# Altium schematic symbol library linear_voltage_regulators.SchLib: 39 symbols
Pins are listed as number, name and electrical type; pins without a type are passive.

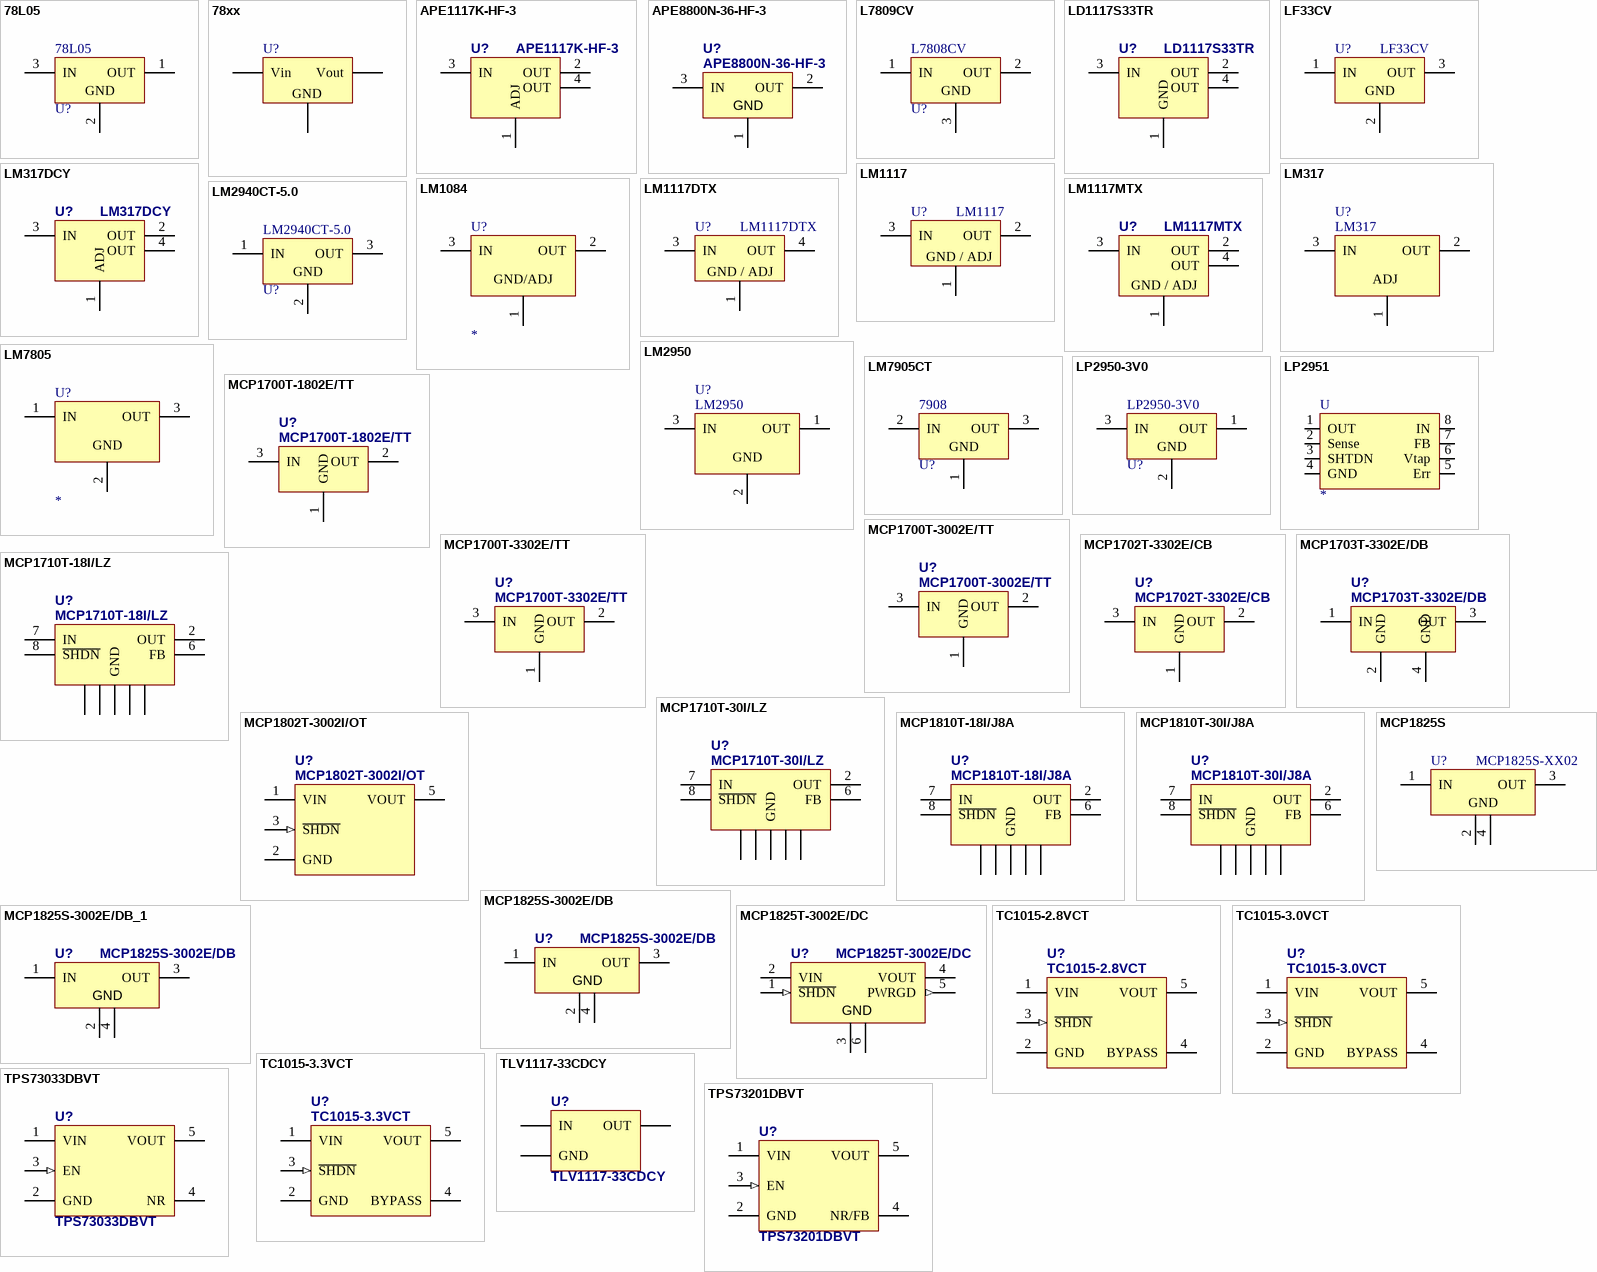
[diagram p0: symbols 78L05 to TPS73201DBVT]

## 78L05
designator U?
Positive Voltage Regulator; Note: Tab is connected to pin 3 (GND).; Published: 24-Aug-2001; LatestRevisionDate: 17-Jul-2002; LatestRevisionNote: Re-released for DXP Platform.; DatasheetVersion: Dec-1998; PackageVersion: Jun-1998; PackageReference: TO220ABN; Publisher: Altium Limited; PackageDescription: TO, Thru-Hole, Vertical, Heatsink Mounted; 3 In-Line Leads; Pitch 2.54 mm; Pin sequence 1, 3, 2; ComponentLink1Description: Manufacturer Link; ComponentLink1URL: http://www.st.com/
footprint TO92 (Footprint not found)
pins: 1 OUT (power), 2 GND (power), 3 IN (power)

## 78xx
designator U?
Positive Voltage Regulator; Published: 20-Feb-2006
pins: 1 Vin (power), 2 GND (power), 3 Vout (power)

## APE1117K-HF-3
designator U?
800mA Low-Dropout Adjustable, 1A Linear Regulator, SOT223 Package; Published: 24-Aug-2001; LatestRevisionDate: 06-Jun-2005; LatestRevisionNote: PCB Pin sequence re-ordered.; DatasheetVersion: Feb-2004; PackageVersion: Jul-2004; PackageReference: TO-220A; Publisher: Altium Limited; PackageDescription: TO, Thru-Hole, Vertical, Heatsink Mounted; 3 In-Line Leads; Pitch 2.54 mm; ComponentLink1Description: Manufacturer Link; ComponentLink1URL: http://www.st.com/; ComponentLink2Description: Datasheet; ComponentLink2URL: http://www.st.com/stonline/books/pdf/docs/2574.pdf; Supplier 1: TME; Supplier Part Number 1: APE1117K-HF-3
footprint SOT-223
pins: 1 ADJ (power), 2 OUT (power), 3 IN (power), 4 OUT (power)

## APE8800N-36-HF-3
designator U?
300mA Low Drop-out Linear Regulator; Published: 24-Aug-2001; LatestRevisionDate: 06-Jun-2005; LatestRevisionNote: PCB Pin sequence re-ordered.; DatasheetVersion: Feb-2004; PackageVersion: Jul-2004; PackageReference: TO-220A; Publisher: Altium Limited; PackageDescription: TO, Thru-Hole, Vertical, Heatsink Mounted; 3 In-Line Leads; Pitch 2.54 mm; ComponentLink1Description: Manufacturer Link; ComponentLink1URL: http://www.st.com/; ComponentLink2Description: Datasheet; ComponentLink2URL: http://www.st.com/stonline/books/pdf/docs/2574.pdf; Supplier 1: TME; Supplier Part Number 1: APE8800N-36-HF-3
footprint SOT-23
footprint SOT-23W
pins: 1 GND (power), 2 OUT (power), 3 IN (power)

## L7809CV
designator U?, comment L7808CV
Positive Voltage Regulator; Note: Tab is connected to pin 3 (GND).; Published: 24-Aug-2001; LatestRevisionDate: 17-Jul-2002; LatestRevisionNote: Re-released for DXP Platform.; DatasheetVersion: Dec-1998; PackageVersion: Jun-1998; PackageReference: TO220ABN; Publisher: Altium Limited; PackageDescription: TO, Thru-Hole, Vertical, Heatsink Mounted; 3 In-Line Leads; Pitch 2.54 mm; Pin sequence 1, 3, 2; ComponentLink1Description: Manufacturer Link; ComponentLink1URL: http://www.st.com/
footprint TO220ABN -wide
pins: 1 IN (power), 2 OUT (power), 3 GND (power)

## LD1117S33TR
designator U?
800mA Low-Dropout 3,3V Linear Regulator, SOT223 Package; Published: 24-Aug-2001; LatestRevisionDate: 06-Jun-2005; LatestRevisionNote: PCB Pin sequence re-ordered.; DatasheetVersion: Feb-2004; PackageVersion: Jul-2004; PackageReference: TO-220A; Publisher: Altium Limited; PackageDescription: TO, Thru-Hole, Vertical, Heatsink Mounted; 3 In-Line Leads; Pitch 2.54 mm; ComponentLink1Description: Manufacturer Link; ComponentLink1URL: http://www.st.com/; ComponentLink2Description: Datasheet; ComponentLink2URL: http://www.st.com/stonline/books/pdf/docs/2574.pdf; Supplier 1: TME; Supplier 2: Farnell; Supplier 3: Farnell; Supplier Part Number 1: LD1117S33TR; Supplier Part Number 2: 1202826; Supplier Part Number 3: 2393623
footprint SOT-223
pins: 1 GND (power), 2 OUT (power), 3 IN (power), 4 OUT (power)

## LF33CV
designator U?
500mA, Very Low Drop (0.45V) Voltage Regulator; Published: 24-Aug-2001; LatestRevisionDate: 06-Jun-2005; LatestRevisionNote: PCB Pin sequence re-ordered.; DatasheetVersion: Feb-2004; PackageVersion: Jul-2004; PackageReference: TO-220A; Publisher: Altium Limited; PackageDescription: TO, Thru-Hole, Vertical, Heatsink Mounted; 3 In-Line Leads; Pitch 2.54 mm; ComponentLink1Description: Manufacturer Link; ComponentLink1URL: http://www.st.com/; ComponentLink2Description: Datasheet; ComponentLink2URL: http://www.st.com/stonline/books/pdf/docs/2574.pdf
footprint TO-220A (TO, Thru-Hole, Vertical, Heatsink Mounted; 3 In-Line Leads; Pitch 2.54 mm)
footprint LF33
pins: 1 IN (power), 2 GND (power), 3 OUT (power)

## LM317
designator U?
1.2V TO 37V VOLTAGE REGULATOR, 1.5A
footprint TO220
footprint D2PAK
pins: 1 ADJ, 2 OUT, 3 IN

## LM317DCY
designator U?
800mA Low-Dropout ADJUSTABLE Linear Regulator, SOT223 Package; Published: 24-Aug-2001; LatestRevisionDate: 06-Jun-2005; LatestRevisionNote: PCB Pin sequence re-ordered.; DatasheetVersion: Feb-2004; PackageVersion: Jul-2004; PackageReference: TO-220A; Publisher: Altium Limited; PackageDescription: TO, Thru-Hole, Vertical, Heatsink Mounted; 3 In-Line Leads; Pitch 2.54 mm; ComponentLink1Description: Manufacturer Link; ComponentLink1URL: http://www.st.com/; ComponentLink2Description: Datasheet; ComponentLink2URL: http://www.st.com/stonline/books/pdf/docs/2574.pdf; Supplier 1: TME; Supplier 2: Farnell; Supplier 3: Farnell; Supplier Part Number 1: LD1117S33TR; Supplier Part Number 2: 1202826; Supplier Part Number 3: 2393623
footprint SOT-223
pins: 1 ADJ (power), 2 OUT (power), 3 IN (power), 4 OUT (power)

## LM1084
designator U?
5A Low Dropout Positive Regulators (3.3V, 5.0V, 12V and Adjustable Versions)
footprint TO220
pins: 1 ADJ, 2 OUT, 3 IN
text: GND/ADJ

## LM1117
designator U?
1,5A, Voltage Regulator ADJ; Published: 24-Aug-2001; LatestRevisionDate: 06-Jun-2005; LatestRevisionNote: PCB Pin sequence re-ordered.; DatasheetVersion: Feb-2004; PackageVersion: Jul-2004; PackageReference: TO-220A; Publisher: Altium Limited; PackageDescription: TO, Thru-Hole, Vertical, Heatsink Mounted; 3 In-Line Leads; Pitch 2.54 mm; ComponentLink1Description: Manufacturer Link; ComponentLink1URL: http://www.st.com/; ComponentLink2Description: Datasheet; ComponentLink2URL: http://www.st.com/stonline/books/pdf/docs/2574.pdf
footprint to-252
pins: 1 ADJ (power), 2 OUT (power), 3 IN (power)
text: GND / ADJ

## LM1117DTX
designator U?
800mA Low-Dropout Linear Regulator, TO-252-2 (DPAK-2) Package; Published: 24-Aug-2001; LatestRevisionDate: 06-Jun-2005; LatestRevisionNote: PCB Pin sequence re-ordered.; DatasheetVersion: Feb-2004; PackageVersion: Jul-2004; PackageReference: TO-220A; Publisher: Altium Limited; PackageDescription: TO, Thru-Hole, Vertical, Heatsink Mounted; 3 In-Line Leads; Pitch 2.54 mm; ComponentLink1Description: Manufacturer Link; ComponentLink1URL: http://www.st.com/; ComponentLink2Description: Datasheet; ComponentLink2URL: http://www.st.com/stonline/books/pdf/docs/2574.pdf
footprint TO-252-2 (DPAK-2)
pins: 1 ADJ (power), 3 IN (power), 4 OUT (power)
text: GND / ADJ

## LM1117MTX
designator U?
800mA Low-Dropout Linear Regulator, SOT223 Package; Published: 24-Aug-2001; LatestRevisionDate: 06-Jun-2005; LatestRevisionNote: PCB Pin sequence re-ordered.; DatasheetVersion: Feb-2004; PackageVersion: Jul-2004; PackageReference: TO-220A; Publisher: Altium Limited; PackageDescription: TO, Thru-Hole, Vertical, Heatsink Mounted; 3 In-Line Leads; Pitch 2.54 mm; ComponentLink1Description: Manufacturer Link; ComponentLink1URL: http://www.st.com/; ComponentLink2Description: Datasheet; ComponentLink2URL: http://www.st.com/stonline/books/pdf/docs/2574.pdf
footprint SOT-223
pins: 1 ADJ (power), 2 OUT (power), 3 IN (power), 4 OUT (power)
text: GND / ADJ

## LM2940CT-5.0
designator U?
1A Low-Dropout Regulator; Note: Tab is connected to GND; Published: 15-Apr-2002; DatasheetVersion: Jun-1999; PackageVersion: 1995; PackageReference: T03B; Publisher: Altium Limited; PackageDescription: TO, Thru-Hole, Vertical, Heatsink Mounted; 3 In-Line Leads; Pitch 2.54 mm; ComponentLink1Description: Manufacturer Link; ComponentLink1URL: http://www.national.com/; ComponentLink2Description: Datasheet; ComponentLink2URL: http://www.national.com/ds.cgi/LM/LM2940.pdf; ComponentLink3Description: URL Link1; ComponentLink3URL: http://www.national.com/pf/LM/LM2940C.html
footprint T03B (TO, Thru-Hole, Vertical, Heatsink Mounted; 3 In-Line Leads; Pitch 2.54 mm)
pins: 1 IN (power), 2 GND (power), 3 OUT (power)

## LM2950
designator U?
0.1A LOW DROPOUT VOLTAGE REGULATOR
footprint TO92
pins: 1 OUT, 2 GND, 3 IN

## LM7805
designator U?
3-Terminal 1A Positive Voltage Regulator
footprint TO220
pins: 1 IN, 2 GND, 3 OUT

## LM7905CT
designator U?, comment 7908
3-Terminal Negative Regulator; Note: Tab is connected to Input; Published: 15-Apr-2002; DatasheetVersion: Jun-1999; PackageVersion: 1995; PackageReference: T03B; Publisher: Altium Limited; PackageDescription: TO, Thru-Hole, Vertical, Heatsink Mounted; 3 In-Line Leads; Pitch 2.54 mm; ComponentLink1Description: Manufacturer Link; ComponentLink1URL: http://www.national.com/; ComponentLink2Description: Datasheet; ComponentLink2URL: http://www.national.com/ds.cgi/LM/LM7905.pdf; ComponentLink3Description: URL Link1; ComponentLink3URL: http://www.national.com/pf/LM/LM7905.html
footprint T03B (TO, Thru-Hole, Vertical, Heatsink Mounted; 3 In-Line Leads; Pitch 2.54 mm)
pins: 1 GND (power), 2 IN (power), 3 OUT (power)

## LP2950-3V0
designator U?
3V0, 100mA Voltage Regulator; Note: Tab is connected to pin 3 (GND).; Published: 24-Aug-2001; LatestRevisionDate: 17-Jul-2002; LatestRevisionNote: Re-released for DXP Platform.; DatasheetVersion: Dec-1998; PackageVersion: Jun-1998; PackageReference: TO220ABN; Publisher: Altium Limited; PackageDescription: TO, Thru-Hole, Vertical, Heatsink Mounted; 3 In-Line Leads; Pitch 2.54 mm; Pin sequence 1, 3, 2; ComponentLink1Description: Manufacturer Link; ComponentLink1URL: http://www.st.com/
footprint TO-92A
footprint TO-92B
footprint TO-92C
footprint TO-92D
pins: 1 OUT (power), 2 GND (power), 3 IN (power)

## LP2951
designator U
Adjustable Micropower Voltage Regulators
footprint SOT-23-8
pins: 1 OUT, 2 Sense, 3 SHTDN, 4 GND, 5 Err, 6 Vtap, 7 FB, 8 IN

## MCP1700T-1802E/TT
designator U?
250mA, Low Voltage, Low Quiescent Current (1.6uA) LDO Voltage Regulator; Published: 24-Aug-2001; LatestRevisionDate: 06-Jun-2005; LatestRevisionNote: PCB Pin sequence re-ordered.; DatasheetVersion: Feb-2004; PackageVersion: Jul-2004; PackageReference: TO-220A; Publisher: Altium Limited; ComponentLink1Description: Manufacturer Link; ComponentLink1URL: http://www.st.com/; ComponentLink2Description: Datasheet; ComponentLink2URL: http://www.st.com/stonline/books/pdf/docs/2574.pdf; Supplier 1: TME; Supplier 2: Farnell; Supplier 3: Farnell; Supplier 4: Farnell; Supplier 5: Farnell; Supplier Part Number 1: MCP1700T-1802E/TT; Supplier Part Number 2: 1296591RL; Supplier Part Number 3: 2414055; Supplier Part Number 4: 1296591; Supplier Part Number 5: 2136988
footprint SOT-23
footprint SOT-23W
pins: 1 GND (power), 2 OUT (power), 3 IN (power)

## MCP1700T-3002E/TT
designator U?
250mA, Low Voltage, Low Quiescent Current (1.6uA) LDO Voltage Regulator; Published: 24-Aug-2001; LatestRevisionDate: 06-Jun-2005; LatestRevisionNote: PCB Pin sequence re-ordered.; DatasheetVersion: Feb-2004; PackageVersion: Jul-2004; PackageReference: TO-220A; Publisher: Altium Limited; PackageDescription: TO, Thru-Hole, Vertical, Heatsink Mounted; 3 In-Line Leads; Pitch 2.54 mm; ComponentLink1Description: Manufacturer Link; ComponentLink1URL: http://www.st.com/; ComponentLink2Description: Datasheet; ComponentLink2URL: http://www.st.com/stonline/books/pdf/docs/2574.pdf; Supplier 1: TME; Supplier 2: Farnell; Supplier 3: Farnell; Supplier 4: Farnell; Supplier 5: Farnell; Supplier Part Number 1: MCP1700T3002ETT; Supplier Part Number 2: 1331482RL; Supplier Part Number 3: 2137807; Supplier Part Number 4: 2414056; Supplier Part Number 5: 1331482
footprint SOT-23
footprint SOT-23W
pins: 1 GND (power), 2 OUT (power), 3 IN (power)

## MCP1700T-3302E/TT
designator U?
250mA, Low Voltage, Low Quiescent Current (1.6uA) LDO Voltage Regulator; Published: 24-Aug-2001; LatestRevisionDate: 06-Jun-2005; LatestRevisionNote: PCB Pin sequence re-ordered.; DatasheetVersion: Feb-2004; PackageVersion: Jul-2004; PackageReference: TO-220A; Publisher: Altium Limited; PackageDescription: TO, Thru-Hole, Vertical, Heatsink Mounted; 3 In-Line Leads; Pitch 2.54 mm; ComponentLink1Description: Manufacturer Link; ComponentLink1URL: http://www.st.com/; ComponentLink2Description: Datasheet; ComponentLink2URL: http://www.st.com/stonline/books/pdf/docs/2574.pdf; Supplier 1: Farnell; Supplier 2: TME; Supplier 3: Farnell; Supplier 4: Farnell; Supplier 5: Farnell; Supplier Part Number 1: 1296592; Supplier Part Number 2: MCP1700T3302ETT; Supplier Part Number 3: 2410188; Supplier Part Number 4: 2133944; Supplier Part Number 5: 1296592RL
footprint SOT-23
footprint SOT-23W
pins: 1 GND (power), 2 OUT (power), 3 IN (power)

## MCP1702T-3302E/CB
designator U?
250mA, Vinmax=13.2V, Low Voltage, Low Quiescent Current (2uA) LDO Voltage Regulator; Published: 24-Aug-2001; LatestRevisionDate: 06-Jun-2005; LatestRevisionNote: PCB Pin sequence re-ordered.; DatasheetVersion: Feb-2004; PackageVersion: Jul-2004; PackageReference: TO-220A; Publisher: Altium Limited; PackageDescription: TO, Thru-Hole, Vertical, Heatsink Mounted; 3 In-Line Leads; Pitch 2.54 mm; ComponentLink1Description: Manufacturer Link; ComponentLink1URL: http://www.st.com/; ComponentLink2Description: Datasheet; ComponentLink2URL: http://www.st.com/stonline/books/pdf/docs/2574.pdf
footprint SOT-23
footprint SOT-23W
pins: 1 GND (power), 2 OUT (power), 3 IN (power)

## MCP1703T-3302E/DB
designator U?
250mA, Vinmax=16V, Low Voltage, Low Quiescent Current (2uA) LDO Voltage Regulator; Published: 24-Aug-2001; LatestRevisionDate: 06-Jun-2005; LatestRevisionNote: PCB Pin sequence re-ordered.; DatasheetVersion: Feb-2004; PackageVersion: Jul-2004; PackageReference: TO-220A; Publisher: Altium Limited; PackageDescription: TO, Thru-Hole, Vertical, Heatsink Mounted; 3 In-Line Leads; Pitch 2.54 mm; ComponentLink1Description: Manufacturer Link; ComponentLink1URL: http://www.st.com/; ComponentLink2Description: Datasheet; ComponentLink2URL: http://www.st.com/stonline/books/pdf/docs/2574.pdf
footprint SOT-223
pins: 1 IN (power), 2 GND (power), 3 OUT (power), 4 GND (power)

## MCP1710T-18I/LZ
designator U?
200mA, Low Voltage, Low Quiescent Current (20nA) LDO Voltage Regulator; Published: 24-Aug-2001; LatestRevisionDate: 06-Jun-2005; LatestRevisionNote: PCB Pin sequence re-ordered.; DatasheetVersion: Feb-2004; PackageVersion: Jul-2004; PackageReference: TO-220A; Publisher: Altium Limited; PackageDescription: TO, Thru-Hole, Vertical, Heatsink Mounted; 3 In-Line Leads; Pitch 2.54 mm; ComponentLink1Description: Manufacturer Link; ComponentLink1URL: http://www.st.com/; ComponentLink2Description: Datasheet; ComponentLink2URL: http://www.st.com/stonline/books/pdf/docs/2574.pdf; Supplier 1: TME; Supplier 2: Farnell; Supplier Part Number 1: MCP1710T-18I/LZ; Supplier Part Number 2: 2458685
footprint VDFN8 (Space Saving, 8-Lead Plastic 2mm x 2mm VDFN-8)
pins: 1 GND (power), 2 OUT (power), 3 GND (power), 4 GND (power), 5 GND (power), 6 FB (power), 7 IN (power), 8 ~{SHDN} (power), 9 GND (power)

## MCP1710T-30I/LZ
designator U?
200mA, Low Voltage, Low Quiescent Current (20nA) LDO Voltage Regulator; Published: 24-Aug-2001; LatestRevisionDate: 06-Jun-2005; LatestRevisionNote: PCB Pin sequence re-ordered.; DatasheetVersion: Feb-2004; PackageVersion: Jul-2004; PackageReference: TO-220A; Publisher: Altium Limited; PackageDescription: TO, Thru-Hole, Vertical, Heatsink Mounted; 3 In-Line Leads; Pitch 2.54 mm; ComponentLink1Description: Manufacturer Link; ComponentLink1URL: http://www.st.com/; ComponentLink2Description: Datasheet; ComponentLink2URL: http://www.st.com/stonline/books/pdf/docs/2574.pdf; Supplier 1: Farnell; Supplier 2: Farnell; Supplier Part Number 1: 2458687; Supplier Part Number 2: 2361982
footprint VDFN8 (Space Saving, 8-Lead Plastic 2mm x 2mm VDFN-8)
pins: 1 GND (power), 2 OUT (power), 3 GND (power), 4 GND (power), 5 GND (power), 6 FB (power), 7 IN (power), 8 ~{SHDN} (power), 9 GND (power)

## MCP1802T-3002I/OT
designator U?
300 mA, High PSRR, Low Quiescent Current LDO; Supplier 1: TME; Supplier 2: Farnell; Supplier 3: Farnell; Supplier Part Number 1: MCP1802T-3002IO; Supplier Part Number 2: 1578373; Supplier Part Number 3: 2136026
footprint SOT-23-5 (, AKA: SOT753 (NXP), TSOP5 (NXP))
pins: 1 VIN (power), 2 GND (power), 3 ~{SHDN} (in), 4 NC hidden, 5 VOUT (power)

## MCP1810T-18I/J8A
designator U?
200mA, Low Voltage, Low Quiescent Current (20nA) LDO Voltage Regulator; Published: 24-Aug-2001; LatestRevisionDate: 06-Jun-2005; LatestRevisionNote: PCB Pin sequence re-ordered.; DatasheetVersion: Feb-2004; PackageVersion: Jul-2004; PackageReference: TO-220A; Publisher: Altium Limited; PackageDescription: TO, Thru-Hole, Vertical, Heatsink Mounted; 3 In-Line Leads; Pitch 2.54 mm; ComponentLink1Description: Manufacturer Link; ComponentLink1URL: http://www.st.com/; ComponentLink2Description: Datasheet; ComponentLink2URL: http://www.st.com/stonline/books/pdf/docs/2574.pdf; Supplier 1: TME; Supplier 2: Farnell; Supplier Part Number 1: MCP1810T-18I/J8A; Supplier Part Number 2: 2706218
footprint VDFN8 (Space Saving, 8-Lead Plastic 2mm x 2mm VDFN-8)
pins: 1 GND (power), 2 OUT (power), 3 GND (power), 4 GND (power), 5 GND (power), 6 FB (power), 7 IN (power), 8 ~{SHDN} (power), 9 GND (power)

## MCP1810T-30I/J8A
designator U?
200mA, Low Voltage, Low Quiescent Current (20nA) LDO Voltage Regulator; Published: 24-Aug-2001; LatestRevisionDate: 06-Jun-2005; LatestRevisionNote: PCB Pin sequence re-ordered.; DatasheetVersion: Feb-2004; PackageVersion: Jul-2004; PackageReference: TO-220A; Publisher: Altium Limited; PackageDescription: TO, Thru-Hole, Vertical, Heatsink Mounted; 3 In-Line Leads; Pitch 2.54 mm; ComponentLink1Description: Manufacturer Link; ComponentLink1URL: http://www.st.com/; ComponentLink2Description: Datasheet; ComponentLink2URL: http://www.st.com/stonline/books/pdf/docs/2574.pdf; Supplier 1: TME; Supplier 2: Farnell; Supplier 3: Farnell; Supplier 4: Farnell; Supplier Part Number 1: MCP1810T-30I/J8A; Supplier Part Number 2: 2678486; Supplier Part Number 3: 2678433RL; Supplier Part Number 4: 2678433
footprint VDFN8 (Space Saving, 8-Lead Plastic 2mm x 2mm VDFN-8)
pins: 1 GND (power), 2 OUT (power), 3 GND (power), 4 GND (power), 5 GND (power), 6 FB (power), 7 IN (power), 8 ~{SHDN} (power), 9 GND (power)

## MCP1825S
designator U?, comment MCP1825S-XX02
500mA, Very Voltage, Low Quiescent Current LDO Voltage Regulator; Published: 24-Aug-2001; LatestRevisionDate: 06-Jun-2005; LatestRevisionNote: PCB Pin sequence re-ordered.; DatasheetVersion: Feb-2004; PackageVersion: Jul-2004; PackageReference: TO-220A; Publisher: Altium Limited; PackageDescription: TO, Thru-Hole, Vertical, Heatsink Mounted; 3 In-Line Leads; Pitch 2.54 mm; ComponentLink1Description: Manufacturer Link; ComponentLink1URL: http://www.st.com/; ComponentLink2Description: Datasheet; ComponentLink2URL: http://www.st.com/stonline/books/pdf/docs/2574.pdf
footprint SOT-223
pins: 1 IN (power), 2 GND (power), 3 OUT (power), 4

## MCP1825S-3002E/DB
designator U?
500mA, Low Voltage, Low Quiescent Current LDO Voltage Regulator; Published: 24-Aug-2001; LatestRevisionDate: 06-Jun-2005; LatestRevisionNote: PCB Pin sequence re-ordered.; DatasheetVersion: Feb-2004; PackageVersion: Jul-2004; PackageReference: TO-220A; Publisher: Altium Limited; PackageDescription: TO, Thru-Hole, Vertical, Heatsink Mounted; 3 In-Line Leads; Pitch 2.54 mm; ComponentLink1Description: Manufacturer Link; ComponentLink1URL: http://www.st.com/; ComponentLink2Description: Datasheet; ComponentLink2URL: http://www.st.com/stonline/books/pdf/docs/2574.pdf
footprint SOT-223
pins: 1 IN (power), 2 GND (power), 3 OUT (power), 4

## MCP1825S-3002E/DB_1
designator U?, comment MCP1825S-3002E/DB
500mA, Low Voltage, Low Quiescent Current LDO Voltage Regulator; Published: 24-Aug-2001; LatestRevisionDate: 06-Jun-2005; LatestRevisionNote: PCB Pin sequence re-ordered.; DatasheetVersion: Feb-2004; PackageVersion: Jul-2004; PackageReference: TO-220A; Publisher: Altium Limited; PackageDescription: TO, Thru-Hole, Vertical, Heatsink Mounted; 3 In-Line Leads; Pitch 2.54 mm; ComponentLink1Description: Manufacturer Link; ComponentLink1URL: http://www.st.com/; ComponentLink2Description: Datasheet; ComponentLink2URL: http://www.st.com/stonline/books/pdf/docs/2574.pdf
footprint SOT-223
pins: 1 IN (power), 2 GND (power), 3 OUT (power), 4

## MCP1825T-3002E/DC
designator U?
500mA, Low Voltage, Low Quiescent Current LDO Voltage Regulator; Published: 24-Aug-2001; LatestRevisionDate: 06-Jun-2005; LatestRevisionNote: PCB Pin sequence re-ordered.; DatasheetVersion: Feb-2004; PackageVersion: Jul-2004; PackageReference: TO-220A; Publisher: Altium Limited; PackageDescription: TO, Thru-Hole, Vertical, Heatsink Mounted; 3 In-Line Leads; Pitch 2.54 mm; ComponentLink1Description: Manufacturer Link; ComponentLink1URL: http://www.st.com/; ComponentLink2Description: Datasheet; ComponentLink2URL: http://www.st.com/stonline/books/pdf/docs/2574.pdf
footprint SOT-223-6
pins: 1 ~{SHDN} (in), 2 VIN (power), 3, 4 VOUT (power), 5 PWRGD (out), 6
text: GND

## TC1015-2.8VCT
designator U?
100mA CMOS LDOs with Shutdown and Reference Bypass; Supplier 1: TME; Supplier 2: Farnell; Supplier Part Number 1: TC1015-2.8VCT; Supplier Part Number 2: 1212684
footprint SOT-23-5
pins: 1 VIN (power), 2 GND (power), 3 ~{SHDN} (in), 4 BYPASS, 5 VOUT (power)

## TC1015-3.0VCT
designator U?
100mA CMOS LDOs with Shutdown and Reference Bypass; Supplier 1: Farnell; Supplier 2: TME; Supplier Part Number 1: 1084315; Supplier Part Number 2: TC1015-3.0VCT
footprint SOT-23-5 (, AKA: SOT753 (NXP), TSOP5 (NXP))
pins: 1 VIN (power), 2 GND (power), 3 ~{SHDN} (in), 4 BYPASS, 5 VOUT (power)

## TC1015-3.3VCT
designator U?
100mA CMOS LDOs with Shutdown and Reference Bypass; Supplier 1: TME; Supplier 2: Farnell; Supplier Part Number 1: TC1015-3.3VCT; Supplier Part Number 2: 1331505
footprint SOT-23-5 (, AKA: SOT753 (NXP), TSOP5 (NXP))
pins: 1 VIN (power), 2 GND (power), 3 ~{SHDN} (in), 4 BYPASS, 5 VOUT (power)

## TLV1117-33CDCY
designator U?
Single Output LDO, 3V3@800mA, Internal Current limit, Thermal Overload Protection; Supplier 1: Farnell; Supplier Part Number 1: 1494942
footprint TLV1117
pins: GND (power), IN, OUT

## TPS73033DBVT
designator U?
Single Output LDO, 3V3@250mA, Low Noise, High PSSR; Supplier 1: TME; Supplier 2: Farnell; Supplier Part Number 1: TPS73033DBVT; Supplier Part Number 2: 1135395
footprint SOT-23-5 (, AKA: SOT753 (NXP), TSOP5 (NXP))
pins: 1 VIN (power), 2 GND (power), 3 EN (in), 4 NR, 5 VOUT (power)

## TPS73201DBVT
designator U?
Single Output LDO, 250mA, Adj.(1.2 to 5.5V), Low Noise, Fast Transient Response; Supplier 1: Farnell; Supplier Part Number 1: 1207342
footprint SOT-23-5 (, AKA: SOT753 (NXP), TSOP5 (NXP))
pins: 1 VIN (power), 2 GND (power), 3 EN (in), 4 NR/FB, 5 VOUT (power)